# Altium integrated library Connectors.IntLib: 5 symbols
Pins are listed as number, name and electrical type; pins without a type are passive.

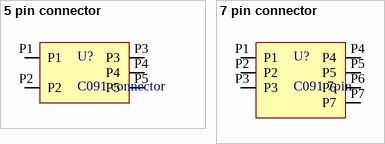
[diagram p0: symbols 5 pin connector to 7 pin connector]

## 5 pin connector
designator U?, comment C091 connector
5 pin connector
footprint C091 Connector
pins: P1 (io), P2 (io), P3 (io), P4 (io), P5 (io)

## 7 pin connector
designator U?, comment C091 7pin
7 pin connector
pins: P1 (io), P2 (io), P3 (io), P4 (io), P5 (io), P6 (io), P7 (io)


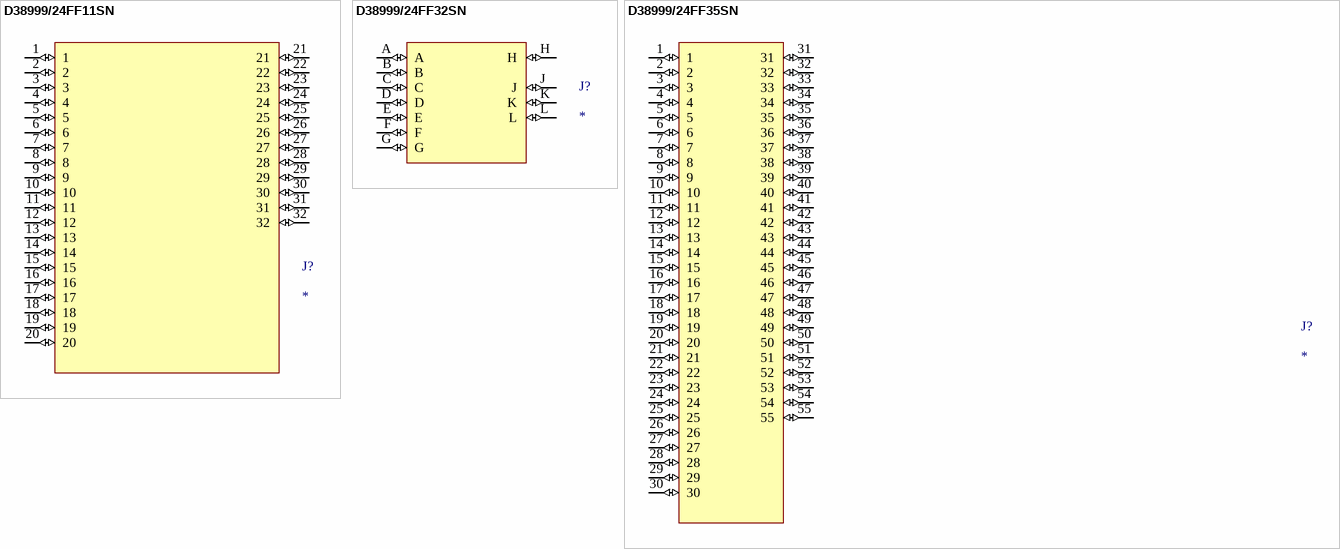
[diagram p1: symbols D38999/24FF11SN to D38999/24FF35SN]

## D38999/24FF11SN
designator J?
footprint 19-32
pins: 1 (io), 2 (io), 3 (io), 4 (io), 5 (io), 6 (io), 7 (io), 8 (io), 9 (io), 10 (io), 11 (io), 12 (io), 13 (io), 14 (io), 15 (io), 16 (io), 17 (io), 18 (io), 19 (io), 20 (io), 21 (io), 22 (io), 23 (io), 24 (io), 25 (io), 26 (io), 27 (io), 28 (io), 29 (io), 30 (io), 31 (io), 32 (io)

## D38999/24FF32SN
designator J?
footprint 19-11
pins: A (io), B (io), C (io), D (io), E (io), F (io), G (io), H (io), J (io), K (io), L (io)

## D38999/24FF35SN
designator J?
D38999/24FE35SN
footprint 17-35
pins: 1 (io), 2 (io), 3 (io), 4 (io), 5 (io), 6 (io), 7 (io), 8 (io), 9 (io), 10 (io), 11 (io), 12 (io), 13 (io), 14 (io), 15 (io), 16 (io), 17 (io), 18 (io), 19 (io), 20 (io), 21 (io), 22 (io), 23 (io), 24 (io), 25 (io), 26 (io), 27 (io), 28 (io), 29 (io), 30 (io), 31 (io), 32 (io), 33 (io), 34 (io), 35 (io), 36 (io), 37 (io), 38 (io), 39 (io), 40 (io), 41 (io), 42 (io), 43 (io), 44 (io), 45 (io), 46 (io), 47 (io), 48 (io), 49 (io), 50 (io), 51 (io), 52 (io), 53 (io), 54 (io), 55 (io)